# Altium footprint library CustomComponentsLibrary.PcbLib: 23 footprints (part 1 of 2)
Each footprint in its own frame and in the unit in brackets; x right, y up, seen from the top. Pads: shape width x height; smd on the part's side, far side on the other; paste and mask are expansions set on the pad; w line width, h text height; cw(c..) or ccw(c..) is an arc to the next point about the centre after c.
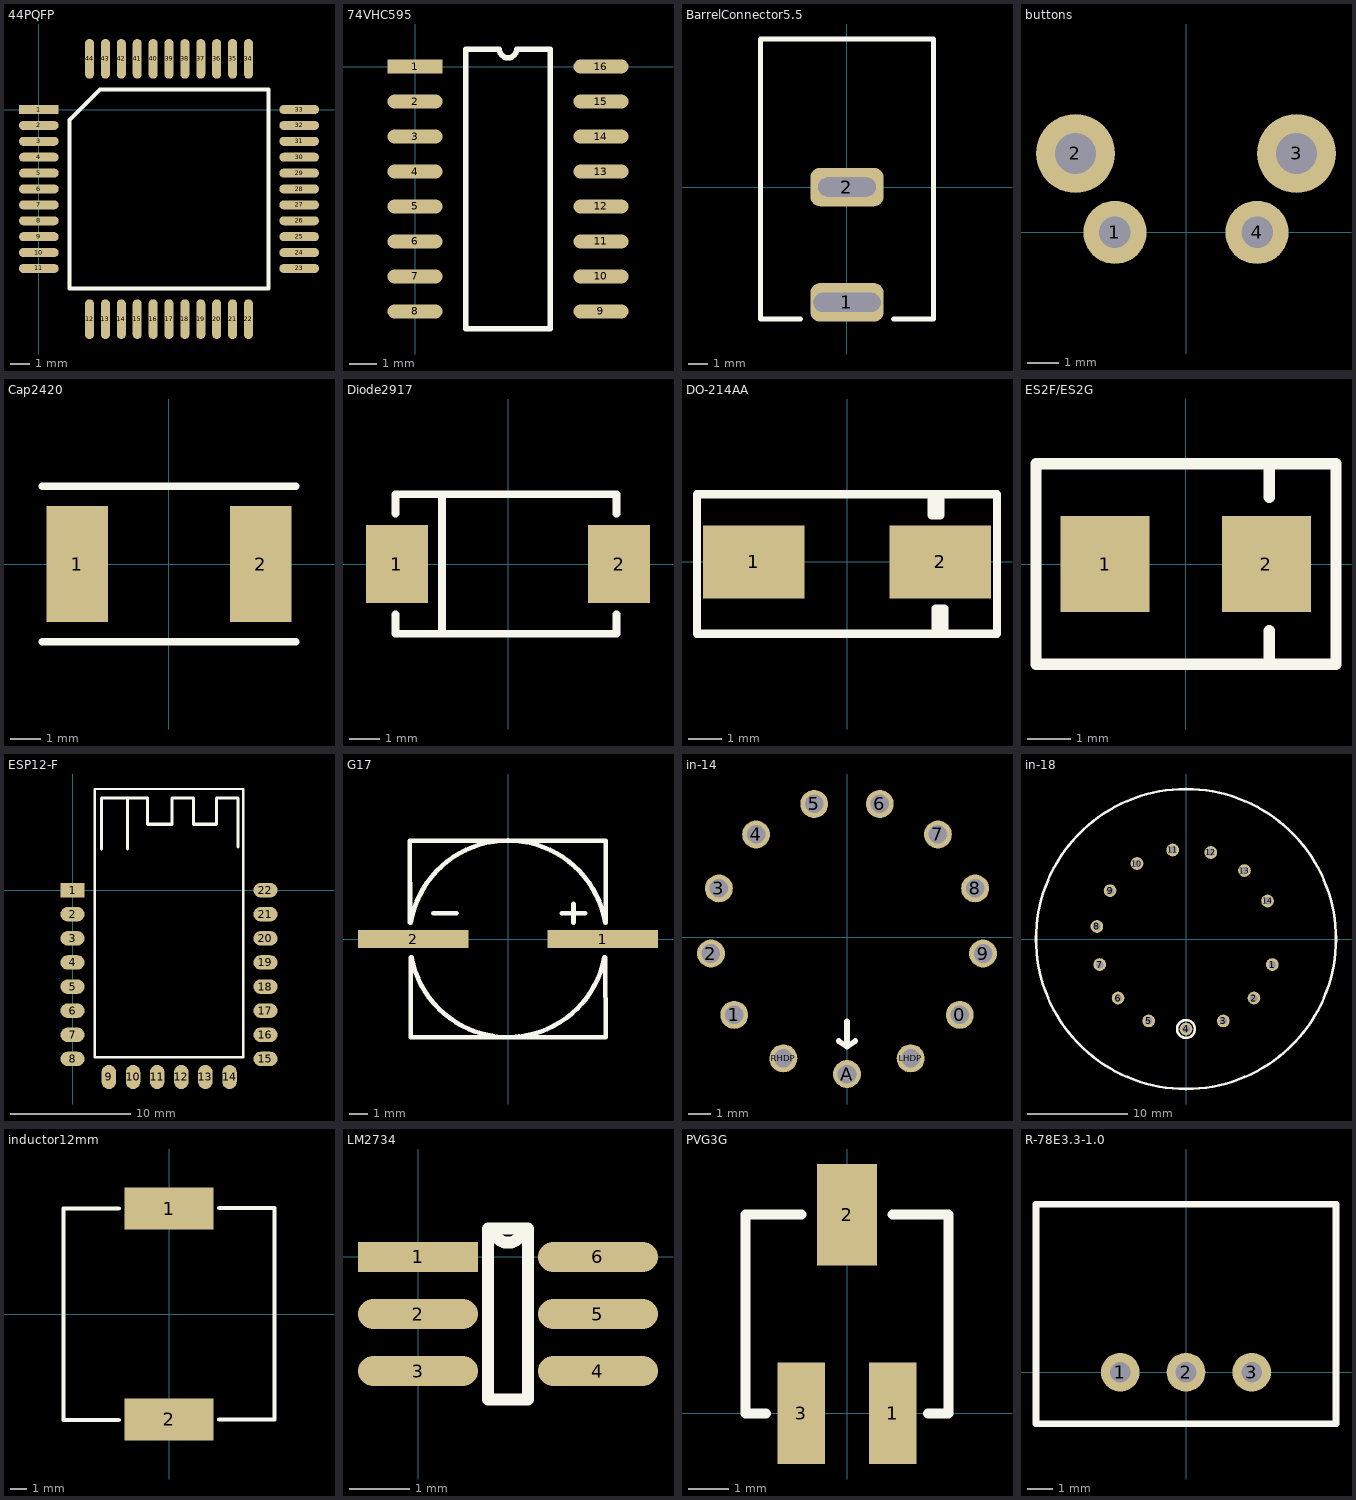
[diagram p0: the footprints below, top view; thin cyan lines are the x and y axes]

## 44PQFP [mm]
pads (44):
  rect 2x0.45 smd: 1(0,0)
  oval 2x0.45 smd: 2(0,-0.8) 3(0,-1.6) 4(0,-2.4) 5(0,-3.2) 6(0,-4) 7(0,-4.8) 8(0,-5.6) 9(0,-6.4) 10(0,-7.2) 11(0,-8) 23(13.1,-8) 24(13.1,-7.2) 25(13.1,-6.4) 26(13.1,-5.6) 27(13.1,-4.8) 28(13.1,-4) 29(13.1,-3.2) 30(13.1,-2.4) 31(13.1,-1.6) 32(13.1,-0.8) 33(13.1,0)
  oval 0.45x2 smd: 12(2.55,-10.55) 13(3.35,-10.55) 14(4.15,-10.55) 15(4.95,-10.55) 16(5.75,-10.55) 17(6.55,-10.55) 18(7.35,-10.55) 19(8.15,-10.55) 20(8.95,-10.55) 21(9.75,-10.55) 22(10.55,-10.55) 34(10.55,2.55) 35(9.75,2.55) 36(8.95,2.55) 37(8.15,2.55) 38(7.35,2.55) 39(6.55,2.55) 40(5.75,2.55) 41(4.95,2.55) 42(4.15,2.55) 43(3.35,2.55) 44(2.55,2.55)
Top Overlay:
  lines w0.2: 1.535,-9.015 1.535,-0.52 3.07,1.015 11.565,1.015 11.565,-9.015 1.535,-9.015
3D body: height 1, standoff 0, extent 1.524,-9.017 11.557,1.016

## 74VHC595 [mm]
pads (16):
  rect 2x0.5 smd: 1(0,0)
  oval 2x0.5 smd: 2(0,-1.27) 3(0,-2.54) 4(0,-3.81) 5(0,-5.08) 6(0,-6.35) 7(0,-7.62) 8(0,-8.89) 9(6.75,-8.89) 10(6.75,-7.62) 11(6.75,-6.35) 12(6.75,-5.08) 13(6.75,-3.81) 14(6.75,-2.54) 15(6.75,-1.27) 16(6.75,0)
Top Overlay:
  lines w0.2: 1.835,-9.525 4.915,-9.525 4.915,0.635 3.692,0.635 cw(c3.375,0.635) 3.057,0.635 1.835,0.635 1.835,-9.525

## BarrelConnector5.5 [mm]
pads (2):
  rrect50% 3.81x2 hole 1 slot 3.5 at 0 deg: 1(0,-6)
  rrect50% 3.81x2 hole 1 slot 3 at 0 deg: 2(0,0)
Top Overlay:
  lines w0.254: -2.413,-6.858 -4.5,-6.858 -4.5,7.7 4.5,7.7 4.5,-6.858 2.413,-6.858
3D body: height 12, standoff 0, extent -4.445,-6.858 4.445,7.62

## buttons [mm]
pads (4):
  round 2 hole 1: 1(-2.25,0) 4(2.25,0)
  round 2.5 hole 1.3: 2(-3.5,2.5) 3(3.5,2.5)
3D body: height 7, standoff 1, extent -5.397,-6.223 5.397,3.937

## Cap2420 [mm]
pads (2):
  rect 2x3.8 smd: 1(-3,0) 2(3,0)
Top Overlay:
  lines w0.254: -4.14,-2.54 4.14,-2.54 ; -4.14,2.54 4.14,2.54

## Diode2917 [mil]
pads (2):
  rect 80x100 smd: 1(-143.5,0) 2(143.5,0)
Top Overlay:
  lines w10: -145,-65 -145,-90 -85,-90 ; -145,65 -145,90 -85,90 ; 140,-65 140,-90 90,-90 -85,-90 ; 140,65 140,90 90,90 -85,90 ; -85,-90 -85,90

## DO-214AA [mil]
pads (2):
  rect 120x86 smd: 1(-110,0) 2(110,0)
Top Overlay:
  lines w10: 100,80 100,55 110,55 110,80 ; 105,-85 105,-55 115,-55 115,-85 ; -177,-85 177,-85 177,80 -177,80 -177,0 -177,-85

## ES2F/ES2G [mil]
pads (2):
  rect 80x86 smd: 1(-72.5,0) 2(72.5,0)
Top Overlay:
  lines w10: 75,-90 75,-60 ; 75,60 75,90 ; -134.5,-90 135,-90 135,90 -134.5,90 -134.5,-5 -134.5,-90

## ESP12-F [mm]
pads (22):
  rect 2x1.2 smd: 1(0,0)
  oval 2x1.2 smd: 2(0,-2) 3(0,-4) 4(0,-6) 5(0,-8) 6(0,-10) 7(0,-12) 8(0,-14) 15(16,-14) 16(16,-12) 17(16,-10) 18(16,-8) 19(16,-6) 20(16,-4) 21(16,-2) 22(16,0)
  oval 1.2x2 smd: 9(3.018,-15.492) 10(5.018,-15.492) 11(7.018,-15.492) 12(9.018,-15.492) 13(11.018,-15.492) 14(13.018,-15.492)
Top Overlay:
  lines w0.2: 10.922,8.382 14.165,8.382 14.165,-13.843 1.835,-13.843 1.835,8.382 4.918,8.382 11.083,8.382
  lines w0.254: 2.413,3.429 2.413,7.62 6.223,7.62 6.223,5.461 8.255,5.461 8.255,7.62 10.033,7.62 10.033,5.461 11.938,5.461 11.938,7.62 13.716,7.62 13.716,3.81 13.716,3.556 ; 4.572,3.429 4.572,7.62

## G17 [mm]
pads (2):
  rect 6x1 smd: 1(5.15,0) 2(-5.15,0)
Top Overlay:
  lines w0.254: -5.322,0.882 -5.334,5.334 0,5.334 5.314,5.334 5.314,0.883 ; -5.29,-1.006 -5.29,-5.271 -5.29,-5.334 0,-5.334 5.314,-5.334 5.291,-1.006 ; -5.28,0.882 cw(c0,0) 5.28,0.883 ; -5.24,-1.006 ccw(c0,0) 5.242,-0.996 ; -4.064,1.397 -2.794,1.397 ; 2.921,1.397 4.191,1.397 ; 3.556,0.889 3.556,1.905

## in-14 [mm]
pads (13):
  round 1.26 hole 0.84: 0(5.094,-3.516) 1(-5.094,-3.516) 2(-6.145,-0.746) 3(-5.788,2.195) 4(-4.105,4.633) 5(-1.481,6.01) 6(1.481,6.01) 7(4.105,4.633) 8(5.788,2.195) 9(6.145,-0.746) A(0,-6.19) LHDP(2.877,-5.481) RHDP(-2.877,-5.481)
Top Overlay:
  lines w0.254: 0,-3.81 0,-4.953 ; 0.381,-4.699 0,-4.953 ; 0,-4.953 -0.381,-4.699 0,-4.953
3D body: height 47.54, standoff 2.54, extent -9.25,-9.244 9.25,9.245

## in-18 [mm]
pads (14):
  round 1.27 hole 0.75: 1(8.629,-2.556) 2(6.792,-5.904) 3(3.732,-8.19) 4(0,-9) 5(-3.732,-8.19) 6(-6.792,-5.904) 7(-8.629,-2.556) 8(-8.912,1.253) 9(-7.591,4.836) 10(-4.902,7.548) 11(-1.33,8.901) 12(2.481,8.651) 13(5.845,6.844) 14(8.157,3.804)
Top Overlay:
  circle w0.254: c0,0 r15
  circle w0.254: c0,-9 r0.889

## inductor12mm [mm]
pads (2):
  rect 5.4x2.54 smd: 1(0,6.4) 2(0,-6.4)
Top Overlay:
  lines w0.254: -3.048,-6.427 -6.4,-6.427 -6.4,6.4 -3.048,6.4 ; 3.048,-6.4 6.4,-6.4 6.4,6.427 3.048,6.427
3D body: height 10, standoff 0, extent -6.35,-6.477 6.35,6.35

## LM2734 [mm]
pads (6):
  rect 2x0.5 smd: 1(0,0)
  oval 2x0.5 smd: 2(0,-0.95) 3(0,-1.9) 4(3,-1.9) 5(3,-0.95) 6(3,0)
Top Overlay:
  lines w0.2: 1.165,-2.375 1.165,0.475 1.737,0.475 cw(c1.5,0.475) 1.262,0.475 1.835,0.475 1.835,-2.375 1.165,-2.375

## PVG3G [mil]
pads (3):
  rect 47x100 smd: 1(45,0) 3(-45,0)
  rect 59x100 smd: 2(0,196)
Top Overlay:
  lines w10: -80,0 -100,0 -100,196 -45,196 ; 45,196 100,196 100,0 80,0

## R-78E3.3-1.0 [mm]
height 10.4
pads (3):
  round 1.5 hole 0.8: 1(-2.54,0) 2(0,0) 3(2.54,0)
Top Overlay:
  lines w0.254: -5.8,-2 -5.8,6.5 5.8,6.5 5.8,-2 -5.8,-2
3D body: height 11, standoff 0, extent -5.842,-2.032 5.842,6.477